# Altium footprint library Orbtronic.PcbLib: 1 footprints
Each footprint in its own frame and in the unit in brackets; x right, y up, seen from the top. Pads: shape width x height; smd on the part's side, far side on the other; paste and mask are expansions set on the pad; w line width, h text height; cw(c..) or ccw(c..) is an arc to the next point about the centre after c.
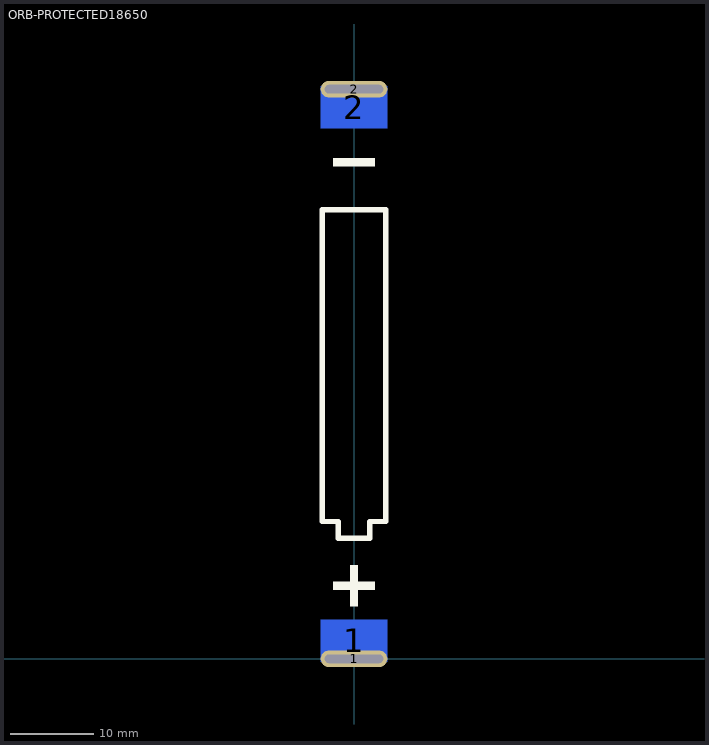
[diagram p0: the footprint, top view; thin cyan lines are the x and y axes]

## ORB-PROTECTED18650 [mm]
height 18.72
pads (4):
  oval 8x2 hole 1 slot 7 at 0 deg: 1(0,0) 2(0,68.33)
  rect 8.001x5.08 smd far side: 1(0,2.163) 2(0,66.167)
Top Overlay:
  region: 2.5,60.065 -2.5,60.065 -2.5,59.065 2.5,59.065
  region: 0.5,6.265 0.5,11.265 -0.5,11.265 -0.5,6.265
  rectangle: -2.5,8.265 2.5,9.265
  lines w0.635: -1.905,16.385 -1.905,14.48 0,14.48 1.905,14.48 1.905,16.385 ; -1.905,16.48 -3.81,16.48 -3.81,53.85 0,53.85 3.81,53.85 3.81,16.48 1.905,16.48
3D body "Protected 18650 Battery.STEP": height 18.72, standoff -1.8, extent -9.315,-0.5 9.315,68.83